# EAGLE library part M74HC4543B1R (library ST_Microelctronics_By_element14_Batch_1)
BCD TO 7 SEGMENT LATCH/DECODER/LCD DRIVER
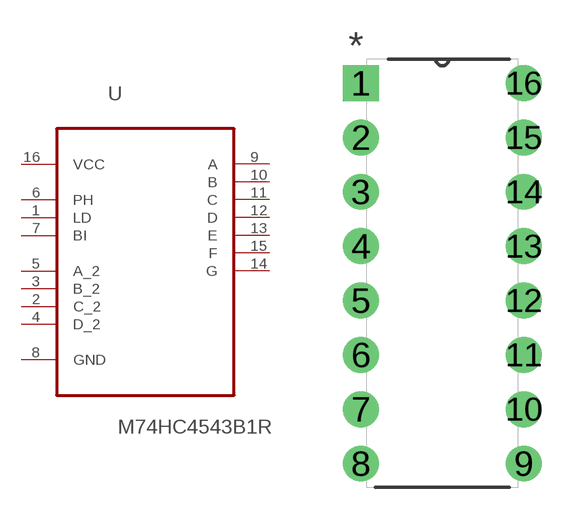
[diagram p243: symbol with the pads of DIP254P762X510-16; footprint DIP254P762X510-16]

Designator prefix U

## M74HC4543B1R (MPN: M74HC4543B1R; OC_FARNELL: 9755535; OC_NEWARK: 89K0921; PACKAGE: PDIP-16; SUPPLIER: STMICROELECTRONICS)  [DIP254P762X510-16]
1  LD  in
2  C_2  in
3  B_2  in
4  D_2  in
5  A_2  in
6  PH  in
7  BI  in
8  GND  pas
9  A  out
10  B  out
11  C  out
12  D  out
13  E  out
14  G  out
15  F  out
16  VCC  pwr

## Footprint DIP254P762X510-16 (pad centres in mm)
drill 1.118 square: 1 -7.62,17.78
drill 1.118: 2 -7.62,15.24; 3 -7.62,12.7; 4 -7.62,10.16; 5 -7.62,7.62; 6 -7.62,5.08; 7 -7.62,2.54; 8 -7.62,0; 9 0,0; 10 0,2.54; 11 0,5.08; 12 0,7.62; 13 0,10.16; 14 0,12.7; 15 0,15.24; 16 0,17.78